# Altium integrated library Resistors Ceramic SMD.IntLib: 90 symbols (part 2 of 2)
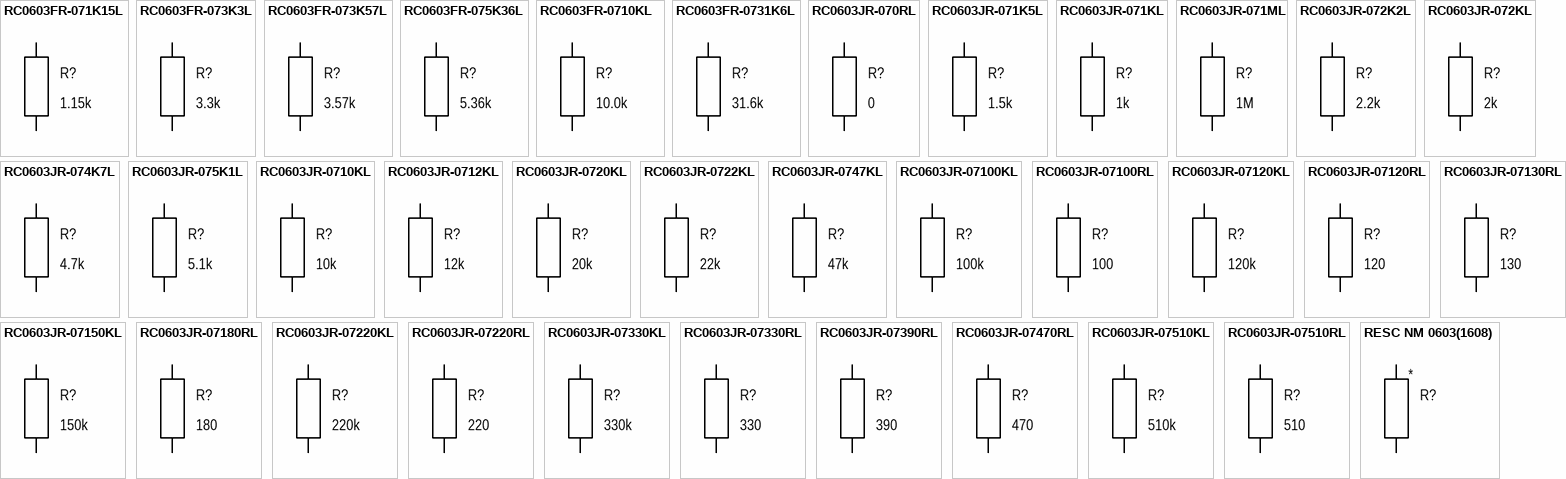
[diagram p5: symbols RC0603FR-071K15L to RESC NM 0603(1608)]

## RC0603JR-07220KL
designator R?, comment 220k
RESC 220k 0603(1608); Manufacturer: Yageo; Part name: RC0603JR-07220KL; Group: Discrete; Temperature coefficient: ±100ppm/°C; Tolerance: ±5%; Power: 0.1W; Component: Resiscot Ceramic; Type: Thin film; Package: 0603 (1608); Resistance: 220k; Dimension: 1.60mm x 0.80mm; Height: 0.55mm; Operating temperature: -55°C +155°C; Mounting type: Surface mount
footprint RESC1608N (Chip Resistor, Body 1.6x0.8mm, IPC High Density)
footprint RESC1608M (Chip Resistor, Body 1.6x0.8mm, IPC High Density)
footprint RESC1608L (Chip Resistor, Body 1.6x0.8mm, IPC High Density)
pins: 1, 2

## RC0603JR-07220RL
designator R?, comment 220
RESC 220 0603(1608); Manufacturer: Yageo; Part name: RC0603JR-07220RL; Group: Discrete; Temperature coefficient: ±100ppm/°C; Tolerance: ±5%; Power: 0.1W; Component: Resiscot Ceramic; Type: Thin film; Package: 0603 (1608); Resistance: 220; Dimension: 1.60mm x 0.80mm; Height: 0.55mm; Operating temperature: -55°C +155°C; Mounting type: Surface mount
footprint RESC1608N (Chip Resistor, Body 1.6x0.8mm, IPC High Density)
footprint RESC1608M (Chip Resistor, Body 1.6x0.8mm, IPC High Density)
footprint RESC1608L (Chip Resistor, Body 1.6x0.8mm, IPC High Density)
pins: 1, 2

## RC0603JR-07330KL
designator R?, comment 330k
RESC 330k 0603(1608); Manufacturer: Yageo; Part name: RC0603JR-07330KL; Group: Discrete; Temperature coefficient: ±100ppm/°C; Tolerance: ±5%; Power: 0.1W; Component: Resiscot Ceramic; Type: Thin film; Package: 0603 (1608); Resistance: 330k; Dimension: 1.60mm x 0.80mm; Height: 0.55mm; Operating temperature: -55°C +155°C; Mounting type: Surface mount
footprint RESC1608N (Chip Resistor, Body 1.6x0.8mm, IPC High Density)
footprint RESC1608M (Chip Resistor, Body 1.6x0.8mm, IPC High Density)
footprint RESC1608L (Chip Resistor, Body 1.6x0.8mm, IPC High Density)
pins: 1, 2

## RC0603JR-07330RL
designator R?, comment 330
RESC 330 0603(1608); Manufacturer: Yageo; Part name: RC0603JR-07330RL; Group: Discrete; Temperature coefficient: ±100ppm/°C; Tolerance: ±5%; Power: 0.1W; Component: Resiscot Ceramic; Type: Thin film; Package: 0603 (1608); Resistance: 330; Dimension: 1.60mm x 0.80mm; Height: 0.55mm; Operating temperature: -55°C +155°C; Mounting type: Surface mount
footprint RESC1608N (Chip Resistor, Body 1.6x0.8mm, IPC High Density)
footprint RESC1608M (Chip Resistor, Body 1.6x0.8mm, IPC High Density)
footprint RESC1608L (Chip Resistor, Body 1.6x0.8mm, IPC High Density)
pins: 1, 2

## RC0603JR-07390RL
designator R?, comment 390
RESC 390 0603(1608); Manufacturer: Yageo; Part name: RC0603JR-07390RL; Group: Discrete; Temperature coefficient: ±100ppm/°C; Tolerance: ±5%; Power: 0.1W; Component: Resiscot Ceramic; Type: Thin film; Package: 0603 (1608); Resistance: 390; Dimension: 1.60mm x 0.80mm; Height: 0.55mm; Operating temperature: -55°C +155°C; Mounting type: Surface mount
footprint RESC1608N (Chip Resistor, Body 1.6x0.8mm, IPC High Density)
footprint RESC1608M (Chip Resistor, Body 1.6x0.8mm, IPC High Density)
footprint RESC1608L (Chip Resistor, Body 1.6x0.8mm, IPC High Density)
pins: 1, 2

## RC0603JR-07470RL
designator R?, comment 470
RESC 470 0603(1608); Manufacturer: Yageo; Part name: RC0603JR-07470RL; Group: Discrete; Temperature coefficient: ±100ppm/°C; Tolerance: ±5%; Power: 0.1W; Component: Resiscot Ceramic; Type: Thin film; Package: 0603 (1608); Resistance: 470; Dimension: 1.60mm x 0.80mm; Height: 0.55mm; Operating temperature: -55°C +155°C; Mounting type: Surface mount
footprint RESC1608N (Chip Resistor, Body 1.6x0.8mm, IPC High Density)
footprint RESC1608M (Chip Resistor, Body 1.6x0.8mm, IPC High Density)
footprint RESC1608L (Chip Resistor, Body 1.6x0.8mm, IPC High Density)
pins: 1, 2

## RC0603JR-07510KL
designator R?, comment 510k
RESC 510k 0603(1608); Manufacturer: Yageo; Part name: RC0603JR-07510KL; Group: Discrete; Temperature coefficient: ±100ppm/°C; Tolerance: ±5%; Power: 0.1W; Component: Resiscot Ceramic; Type: Thin film; Package: 0603 (1608); Resistance: 510k; Dimension: 1.60mm x 0.80mm; Height: 0.55mm; Operating temperature: -55°C +155°C; Mounting type: Surface mount
footprint RESC1608N (Chip Resistor, Body 1.6x0.8mm, IPC High Density)
footprint RESC1608M (Chip Resistor, Body 1.6x0.8mm, IPC High Density)
footprint RESC1608L (Chip Resistor, Body 1.6x0.8mm, IPC High Density)
pins: 1, 2

## RC0603JR-07510RL
designator R?, comment 510
RESC 510 0603(1608); Manufacturer: Yageo; Part name: RC0603JR-07510RL; Group: Discrete; Temperature coefficient: ±100ppm/°C; Tolerance: ±5%; Power: 0.1W; Component: Resiscot Ceramic; Type: Thin film; Package: 0603 (1608); Resistance: 510; Dimension: 1.60mm x 0.80mm; Height: 0.55mm; Operating temperature: -55°C +155°C; Mounting type: Surface mount
footprint RESC1608N (Chip Resistor, Body 1.6x0.8mm, IPC High Density)
footprint RESC1608M (Chip Resistor, Body 1.6x0.8mm, IPC High Density)
footprint RESC1608L (Chip Resistor, Body 1.6x0.8mm, IPC High Density)
pins: 1, 2

## RESC NM 0603(1608)
designator R?  (no BOM)
RESC NM 0603(1608); Group: Discrete; Component: Resiscot Ceramic; Package: 0603 (1608); Dimension: 1.60mm x 0.80mm; Height: 0.55mm; Mounting type: Surface mount (Not mounted)
footprint RESC1608N_NM (Chip Resistor, Body 1.6x0.8mm, IPC High Density)
footprint RESC1608M_NM (Chip Resistor, Body 1.6x0.8mm, IPC High Density)
footprint RESC1608L_NM (Chip Resistor, Body 1.6x0.8mm, IPC High Density)
pins: 1, 2